# Altium footprint library Connector_RJ45.PcbLib: 7 footprints
Each footprint in its own frame and in the unit in brackets; x right, y up, seen from the top. Pads: shape width x height; smd on the part's side, far side on the other; paste and mask are expansions set on the pad; w line width, h text height; cw(c..) or ccw(c..) is an arc to the next point about the centre after c.
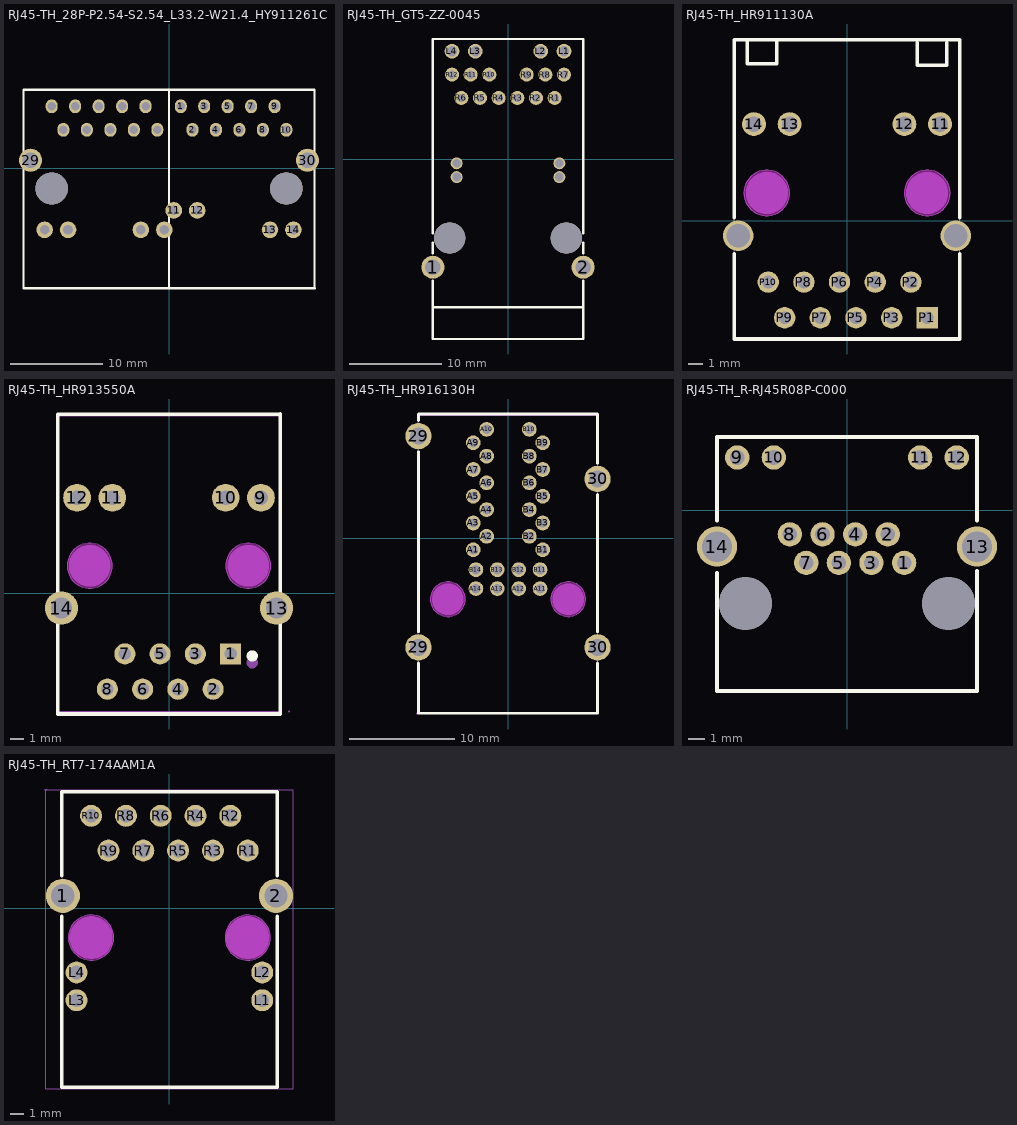
[diagram p0: the footprints below, top view; thin cyan lines are the x and y axes]

## RJ45-TH_28P-P2.54-S2.54_L33.2-W21.4_HY911261C [mm]
pads (32):
  oval 1.3x1.5 hole 0.914: 1(1.273,6.685) 2(2.543,4.145) 2(1)(-12.697,6.685) 2(2)(-11.427,4.145) 2(3)(-10.157,6.685) 2(4)(-8.887,4.145) 2(5)(-7.617,6.685) 2(6)(-6.347,4.145) 2(7)(-5.077,6.685) 2(8)(-3.807,4.145) 2(9)(-2.537,6.685) 2(10)(-1.267,4.145) 3(3.813,6.685) 4(5.083,4.145) 5(6.353,6.685) 6(7.623,4.145) 7(8.893,6.685) 8(10.163,4.145) 9(11.433,6.685) 10(12.703,4.145)
  round 1.8 hole 1.04: 2(11)(-13.467,-6.685) 2(12)(-10.927,-6.685) 2(13)(-3.048,-6.685) 2(14)(-0.508,-6.685) 11(0.513,-4.585) 12(3.053,-4.585) 13(10.932,-6.685) 14(13.472,-6.685)
  round 2.5 hole 1.702: 29(-14.986,0.846) 30(14.986,0.846)
  round 3.5 hole 3.5 unplated: ""(-12.697,-2.205) ""(12.703,-2.205)
Top Overlay:
  lines w0.254: -15.748,-13.024 -15.748,8.475 ; -15.748,8.496 15.752,8.496 ; -15.738,-13.024 15.762,-13.024 ; 0.002,-13.024 0.002,8.475 ; 15.752,-13.024 15.752,8.475
3D body "RJ1.stp": height 15.03, standoff -3.5, extent -16.752,-13.15 16.752,8.349

## RJ45-TH_GT5-ZZ-0045 [mm]
pads (24):
  round 2.5 hole 1.7: 1(-8.175,-11.745) 2(8.175,-11.745)
  round 1.6 hole 1.1: L1(6.095,11.745) L2(3.555,11.745) L3(-3.555,11.745) L4(-6.095,11.745)
  round 1.524 hole 0.914: R1(5.075,6.665) R2(3.045,6.665) R3(1.015,6.665) R4(-1.015,6.665) R5(-3.045,6.665) R6(-5.075,6.665) R7(6.09,9.205) R8(4.06,9.205) R9(2.03,9.205) R10(-2.03,9.205) R11(-4.06,9.205) R12(-6.09,9.205)
  round 1.3 hole 0.95: R13(5.59,-0.445) R14(-5.59,-0.445) R15(5.59,-1.945) R16(-5.59,-1.945)
  round 3.4 hole 3.4 unplated: ""(-6.35,-8.575) ""(6.35,-8.575)
Top Overlay:
  lines w0.254: -8.175,-16.121 8.175,-16.121 ; -8.175,-13.226 -8.175,-19.558 8.175,-19.558 8.175,-13.226 ; -8.175,-10.264 -8.175,-9.071 ; -8.175,-8.079 -8.175,13.081 8.175,13.081 8.175,-8.079 ; 8.175,-10.264 8.175,-9.071

## RJ45-TH_HR911130A [mm]
pads (16):
  round 1.7 hole 1.1: 11(6.625,6.895) 12(4.085,6.895) 13(-4.085,6.895) 14(-6.625,6.895)
  rect 1.524x1.524 hole 0.91: P1(5.72,-6.895)
  round 1.524 hole 0.91: P2(4.549,-4.355) P3(3.18,-6.895) P4(2.009,-4.355) P5(0.64,-6.895) P6(-0.531,-4.355) P7(-1.9,-6.895) P8(-3.071,-4.355) P9(-4.44,-6.895) P10(-5.611,-4.355)
  round 2.159 hole 1.7: SHIELD0(-7.745,-1.055) SHIELD1(7.745,-1.055)
Top Overlay:
  lines w0.254: -8.02,-2.337 -8.02,-8.405 8.02,-8.405 8.02,-2.337 ; -8.02,0.226 -8.02,12.877 ; -8.02,12.895 8.02,12.895 8.02,0.226 ; -7.1,12.795 -7.1,11.195 -5,11.195 -5,11.995 -5,12.795 ; 4.999,12.695 4.999,11.095 7.099,11.095 7.099,11.895 7.099,12.695
Keep-Out Layer:
  board cut-out: -4.09,1.995 -4.09,1.835 -4.152,1.521 -4.275,1.225 -4.453,0.959 -4.679,0.733 -4.945,0.555 -5.241,0.432 -5.555,0.37 -5.875,0.37 -6.189,0.432 -6.485,0.555 -6.751,0.733 -6.977,0.959 -7.155,1.225 -7.278,1.521 -7.34,1.835 -7.34,1.995 -7.34,2.155 -7.278,2.469 -7.155,2.765 -6.977,3.031 -6.751,3.257 -6.485,3.435 -6.189,3.558 -5.875,3.62 -5.555,3.62 -5.241,3.558 -4.945,3.435 -4.679,3.257 -4.453,3.031 -4.275,2.765 -4.152,2.469 -4.09,2.155 -4.09,1.995
  board cut-out: 7.34,1.995 7.34,1.835 7.278,1.521 7.155,1.225 6.977,0.959 6.751,0.733 6.485,0.555 6.189,0.432 5.875,0.37 5.555,0.37 5.241,0.432 4.945,0.555 4.679,0.733 4.453,0.959 4.275,1.225 4.152,1.521 4.09,1.835 4.09,1.995 4.09,2.155 4.152,2.469 4.275,2.765 4.453,3.031 4.679,3.257 4.945,3.435 5.241,3.558 5.555,3.62 5.875,3.62 6.189,3.558 6.485,3.435 6.751,3.257 6.977,3.031 7.155,2.765 7.278,2.469 7.34,2.155 7.34,1.995
Keep-Out Layer:
  circle w0.005: c-5.715,1.995 r1.625
  circle w0.005: c5.715,1.995 r1.625
  region: -4.09,1.995 -4.09,1.835 -4.152,1.521 -4.275,1.225 -4.453,0.959 -4.679,0.733 -4.945,0.555 -5.241,0.432 -5.555,0.37 -5.875,0.37 -6.189,0.432 -6.485,0.555 -6.751,0.733 -6.977,0.959 -7.155,1.225 -7.278,1.521 -7.34,1.835 -7.34,1.995 -7.34,2.155 -7.278,2.469 -7.155,2.765 -6.977,3.031 -6.751,3.257 -6.485,3.435 -6.189,3.558 -5.875,3.62 -5.555,3.62 -5.241,3.558 -4.945,3.435 -4.679,3.257 -4.453,3.031 -4.275,2.765 -4.152,2.469 -4.09,2.155 -4.09,1.995
  region: 7.34,1.995 7.34,1.835 7.278,1.521 7.155,1.225 6.977,0.959 6.751,0.733 6.485,0.555 6.189,0.432 5.875,0.37 5.555,0.37 5.241,0.432 4.945,0.555 4.679,0.733 4.453,0.959 4.275,1.225 4.152,1.521 4.09,1.835 4.09,1.995 4.09,2.155 4.152,2.469 4.275,2.765 4.453,3.031 4.679,3.257 4.945,3.435 5.241,3.558 5.555,3.62 5.875,3.62 6.189,3.558 6.485,3.435 6.751,3.257 6.977,3.031 7.155,2.765 7.278,2.469 7.34,2.155 7.34,1.995
Mechanical 1:
  circle w0.005: c-5.715,1.995 r1.625
  circle w0.005: c5.715,1.995 r1.625
Mechanical 6:
  circle w1.5: c5.7,1.995 r0.75
  circle w1.5: c-5.7,1.995 r0.75
Mechanical 15:
  region: 8.08,12.895 8.08,12.87 8.045,12.835 7.995,12.835 7.96,12.87 7.96,12.895 7.96,12.92 7.995,12.955 8.045,12.955 8.08,12.92 8.08,12.895
  region: -5.411,-4.555 -5.811,-4.555 -5.811,-4.155 -5.411,-4.155
  region: -4.24,-7.095 -4.64,-7.095 -4.64,-6.695 -4.24,-6.695
  region: -2.871,-4.555 -3.271,-4.555 -3.271,-4.155 -2.871,-4.155
  region: -1.7,-7.095 -2.1,-7.095 -2.1,-6.695 -1.7,-6.695
  region: -0.331,-4.555 -0.731,-4.555 -0.731,-4.155 -0.331,-4.155
  region: 0.84,-7.095 0.44,-7.095 0.44,-6.695 0.84,-6.695
  region: 2.209,-4.555 1.809,-4.555 1.809,-4.155 2.209,-4.155
  region: 3.38,-7.095 2.98,-7.095 2.98,-6.695 3.38,-6.695
  region: 4.749,-4.555 4.349,-4.555 4.349,-4.155 4.749,-4.155
  region: -6.354,6.645 -6.854,6.645 -6.854,7.145 -6.354,7.145
  region: 7.895,-0.455 7.895,-1.655 7.595,-1.655 7.595,-0.455
  region: -7.595,-0.455 -7.595,-1.655 -7.895,-1.655 -7.895,-0.455
  region: 5.92,-7.095 5.52,-7.095 5.52,-6.695 5.92,-6.695
  region: -3.814,6.645 -4.314,6.645 -4.314,7.145 -3.814,7.145
  region: 4.356,6.645 3.856,6.645 3.856,7.145 4.356,7.145
  region: 6.896,6.645 6.396,6.645 6.396,7.145 6.896,7.145
  lines w0.051: -8.02,-8.405 -8.02,12.895 8.02,12.895 8.02,-8.405 -8.02,-8.405
3D body "RJ45-TH_HR911130A~RJ45-TH_HR911130A~mJyo.stp": height 13.5, standoff -4, extent -8.07,-8.391 8.07,12.909

## RJ45-TH_HR913550A [mil]
pads (14):
  rect 60x60 hole 35.4 mask+2: 1(174.8,-171.5)
  round 60 hole 35.4 mask+2: 2(125.2,-271.5) 3(74.8,-171.5) 4(25.2,-271.5) 5(-25.2,-171.5) 6(-74.8,-271.5) 7(-125.2,-171.5) 8(-174.8,-271.5)
  round 78.7 hole 40.2 mask+2: 9(260.8,271.5) 10(160.8,271.5) 11(-160.8,271.5) 12(-260.8,271.5)
  round 94.5 hole 59.1 mask+2: 13(305.1,-41.5) 14(-305.1,-41.5)
Top Overlay:
  circle w15.7: c236.2,-177.2 r7.9
  lines w10: -315,-341.9 315,-341.9 ; -315,-341.8 -315,508.5 315,508.5 ; 315,-341.5 315,508.9
Keep-Out Layer:
  board cut-out: -160.8,78.5 -160.8,84.8 -163.26,97.17 -168.08,108.82 -175.09,119.3 -184,128.21 -194.48,135.22 -206.13,140.04 -218.5,142.5 -231.1,142.5 -243.47,140.04 -255.12,135.22 -265.6,128.21 -274.51,119.3 -281.52,108.82 -286.34,97.17 -288.8,84.8 -288.8,78.5 -288.8,72.2 -286.34,59.83 -281.52,48.18 -274.51,37.7 -265.6,28.79 -255.12,21.78 -243.47,16.96 -231.1,14.5 -218.5,14.5 -206.13,16.96 -194.48,21.78 -184,28.79 -175.09,37.7 -168.08,48.18 -163.26,59.83 -160.8,72.2 -160.8,78.5
  board cut-out: 288.8,78.5 288.8,84.8 286.34,97.17 281.52,108.82 274.51,119.3 265.6,128.21 255.12,135.22 243.47,140.04 231.1,142.5 218.5,142.5 206.13,140.04 194.48,135.22 184,128.21 175.09,119.3 168.08,108.82 163.26,97.17 160.8,84.8 160.8,78.5 160.8,72.2 163.26,59.83 168.08,48.18 175.09,37.7 184,28.79 194.48,21.78 206.13,16.96 218.5,14.5 231.1,14.5 243.47,16.96 255.12,21.78 265.6,28.79 274.51,37.7 281.52,48.18 286.34,59.83 288.8,72.2 288.8,78.5
Mechanical 1:
  circle w0.2: c-224.8,78.5 r64
  circle w0.2: c224.8,78.5 r64
Mechanical 6:
  circle w15.7: c236.2,-196.8 r7.9
  circle w59.1: c224.8,78.5 r29.5
  circle w59.1: c-224.8,78.5 r29.5
Mechanical 15:
  drawing of 21 lines, arcs and shapes, not listed
3D body "RJ1.stp": height 539.35, standoff -118.1, extent -322.86,-354.35 322.82,507.82

## RJ45-TH_HR916130H [mm]
pads (32):
  round 2.5 hole 1.6 mask+0.05: 29(-8.505,-10.35) 29(-8.505,9.71) 30(8.505,-10.35) 30(8.505,5.65)
  round 1.4 hole 0.9 mask+0.05: A1(-3.3,-1.08) A2(-2.03,0.19) A3(-3.3,1.46) A4(-2.03,2.73) A5(-3.3,4) A6(-2.03,5.27) A7(-3.3,6.54) A8(-2.03,7.81) A9(-3.3,9.08) A10(-2.03,10.35) A11(3.045,-4.77) A12(1.015,-4.77) A13(-1.015,-4.77) A14(-3.045,-4.77) B1(3.3,-1.08) B2(2.03,0.19) B3(3.3,1.46) B4(2.03,2.73) B5(3.3,4) B6(2.03,5.27) B7(3.3,6.54) B8(2.03,7.81) B9(3.3,9.08) B10(2.03,10.35) B11(3.045,-2.97) B12(1.015,-2.97) B13(-1.015,-2.97) B14(-3.045,-2.97)
Top Overlay:
  lines w0.254: -8.5,-11.83 -8.5,-16.62 8.5,-16.62 8.5,-11.83 ; -8.5,-8.87 -8.5,8.23 ; -8.5,11.19 -8.5,11.811 8.5,11.811 8.5,7.13 ; 8.5,-8.87 8.5,4.17
Keep-Out Layer:
  board cut-out: -4.065,-5.78 -4.065,-5.618 -4.128,-5.299 -4.253,-4.998 -4.433,-4.728 -4.663,-4.498 -4.933,-4.318 -5.234,-4.193 -5.552,-4.13 -5.878,-4.13 -6.196,-4.193 -6.497,-4.318 -6.767,-4.498 -6.997,-4.728 -7.177,-4.998 -7.302,-5.299 -7.365,-5.618 -7.365,-5.78 -7.365,-5.943 -7.302,-6.261 -7.177,-6.562 -6.997,-6.832 -6.767,-7.062 -6.497,-7.242 -6.196,-7.367 -5.878,-7.43 -5.552,-7.43 -5.234,-7.367 -4.933,-7.242 -4.663,-7.062 -4.433,-6.832 -4.253,-6.562 -4.128,-6.261 -4.065,-5.943 -4.065,-5.78
  board cut-out: 7.365,-5.78 7.365,-5.618 7.302,-5.299 7.177,-4.998 6.997,-4.728 6.767,-4.498 6.497,-4.318 6.196,-4.193 5.878,-4.13 5.552,-4.13 5.234,-4.193 4.933,-4.318 4.663,-4.498 4.433,-4.728 4.253,-4.998 4.128,-5.299 4.065,-5.618 4.065,-5.78 4.065,-5.943 4.128,-6.261 4.253,-6.562 4.433,-6.832 4.663,-7.062 4.933,-7.242 5.234,-7.367 5.552,-7.43 5.878,-7.43 6.196,-7.367 6.497,-7.242 6.767,-7.062 6.997,-6.832 7.177,-6.562 7.302,-6.261 7.365,-5.943 7.365,-5.78
Mechanical 1:
  circle w0.005: c-5.715,-5.78 r1.65
  circle w0.005: c5.715,-5.78 r1.65
Mechanical 6:
  circle w1.5: c5.715,-5.78 r0.75
  circle w1.5: c-5.715,-5.78 r0.75
Mechanical 15:
  drawing of 37 lines, arcs and shapes, not listed
3D body "D1.stp": height 26.55, standoff -4, extent -9.2,-16.569 9.2,11.731

## RJ45-TH_R-RJ45R08P-C000 [mil]
pads (16):
  round 60 hole 36: 1(140.55,-129.72) 2(100.39,-59.65) 3(60.23,-129.72) 4(20.08,-59.65) 5(-20.08,-129.72) 6(-60.24,-59.65) 7(-100.39,-129.72) 8(-140.55,-59.65) 9(-270.08,129.72) 10(-179.92,129.72) 11(179.92,129.72) 12(270.08,129.72)
  round 98.42 hole 74.8: 13(320.08,-89.57) 14(-320.08,-89.57)
  round 129.92 hole 129.92 unplated: ""(-250,-229.72) ""(250,-229.72)
Top Overlay:
  lines w10: -320.08,-25 -320.08,180 320.08,180 320.08,-25 ; -320,-155 -320,-445 320,-445 320,-150
Mechanical 15:
  circle w59.05: c250,-229.72 r29.53
  circle w59.05: c-250,-229.72 r29.53
3D body: height 515.75, standoff 0, extent -320,-445 320.08,180

## RJ45-TH_RT7-174AAM1A [mil]
pads (16):
  round 98.4 hole 66.9 mask+2: 1(-306.1,35) 2(306.1,35)
  round 63 hole 39.4 mask+2: L1(266.7,-265) L2(266.7,-185) L3(-266.7,-265) L4(-266.7,-185) R1(225,165) R2(175,265) R3(125,165) R4(75,265) R5(25,165) R6(-25,265) R7(-75,165) R8(-125,265) R9(-175,165) R10(-225,265)
Top Overlay:
  lines w10: -310,-23.1 -310,-515 310,-515 310,-23.1 ; -310,93.2 -310,334.6 310,334.6 ; 310,93.2 310,330
Keep-Out Layer:
  board cut-out: 290,-85 290,-78.6 287.5,-66.04 282.6,-54.21 275.49,-43.56 266.44,-34.51 255.79,-27.4 243.96,-22.5 231.4,-20 218.6,-20 206.04,-22.5 194.21,-27.4 183.56,-34.51 174.51,-43.56 167.4,-54.21 162.5,-66.04 160,-78.6 160,-85 160,-91.4 162.5,-103.96 167.4,-115.79 174.51,-126.44 183.56,-135.49 194.21,-142.6 206.04,-147.5 218.6,-150 231.4,-150 243.96,-147.5 255.79,-142.6 266.44,-135.49 275.49,-126.44 282.6,-115.79 287.5,-103.96 290,-91.4 290,-85
  board cut-out: -160,-85 -160,-78.6 -162.5,-66.04 -167.4,-54.21 -174.51,-43.56 -183.56,-34.51 -194.21,-27.4 -206.04,-22.5 -218.6,-20 -231.4,-20 -243.96,-22.5 -255.79,-27.4 -266.44,-34.51 -275.49,-43.56 -282.6,-54.21 -287.5,-66.04 -290,-78.6 -290,-85 -290,-91.4 -287.5,-103.96 -282.6,-115.79 -275.49,-126.44 -266.44,-135.49 -255.79,-142.6 -243.96,-147.5 -231.4,-150 -218.6,-150 -206.04,-147.5 -194.21,-142.6 -183.56,-135.49 -174.51,-126.44 -167.4,-115.79 -162.5,-103.96 -160,-91.4 -160,-85
Mechanical 1:
  circle w0.2: c225,-85 r65
  circle w0.2: c-225,-85 r65
Mechanical 15:
  drawing of 23 lines, arcs and shapes, not listed
3D body "3D_PCB1_2022-04-15.stp": height 606.28, standoff -157.5, extent -388.78,-512.81 388.78,335.61